# Altium footprint library PCB1.PcbLib: 17 footprints (part 1 of 2)
Each footprint in its own frame and in the unit in brackets; x right, y up, seen from the top. Pads: shape width x height; smd on the part's side, far side on the other; paste and mask are expansions set on the pad; w line width, h text height; cw(c..) or ccw(c..) is an arc to the next point about the centre after c.
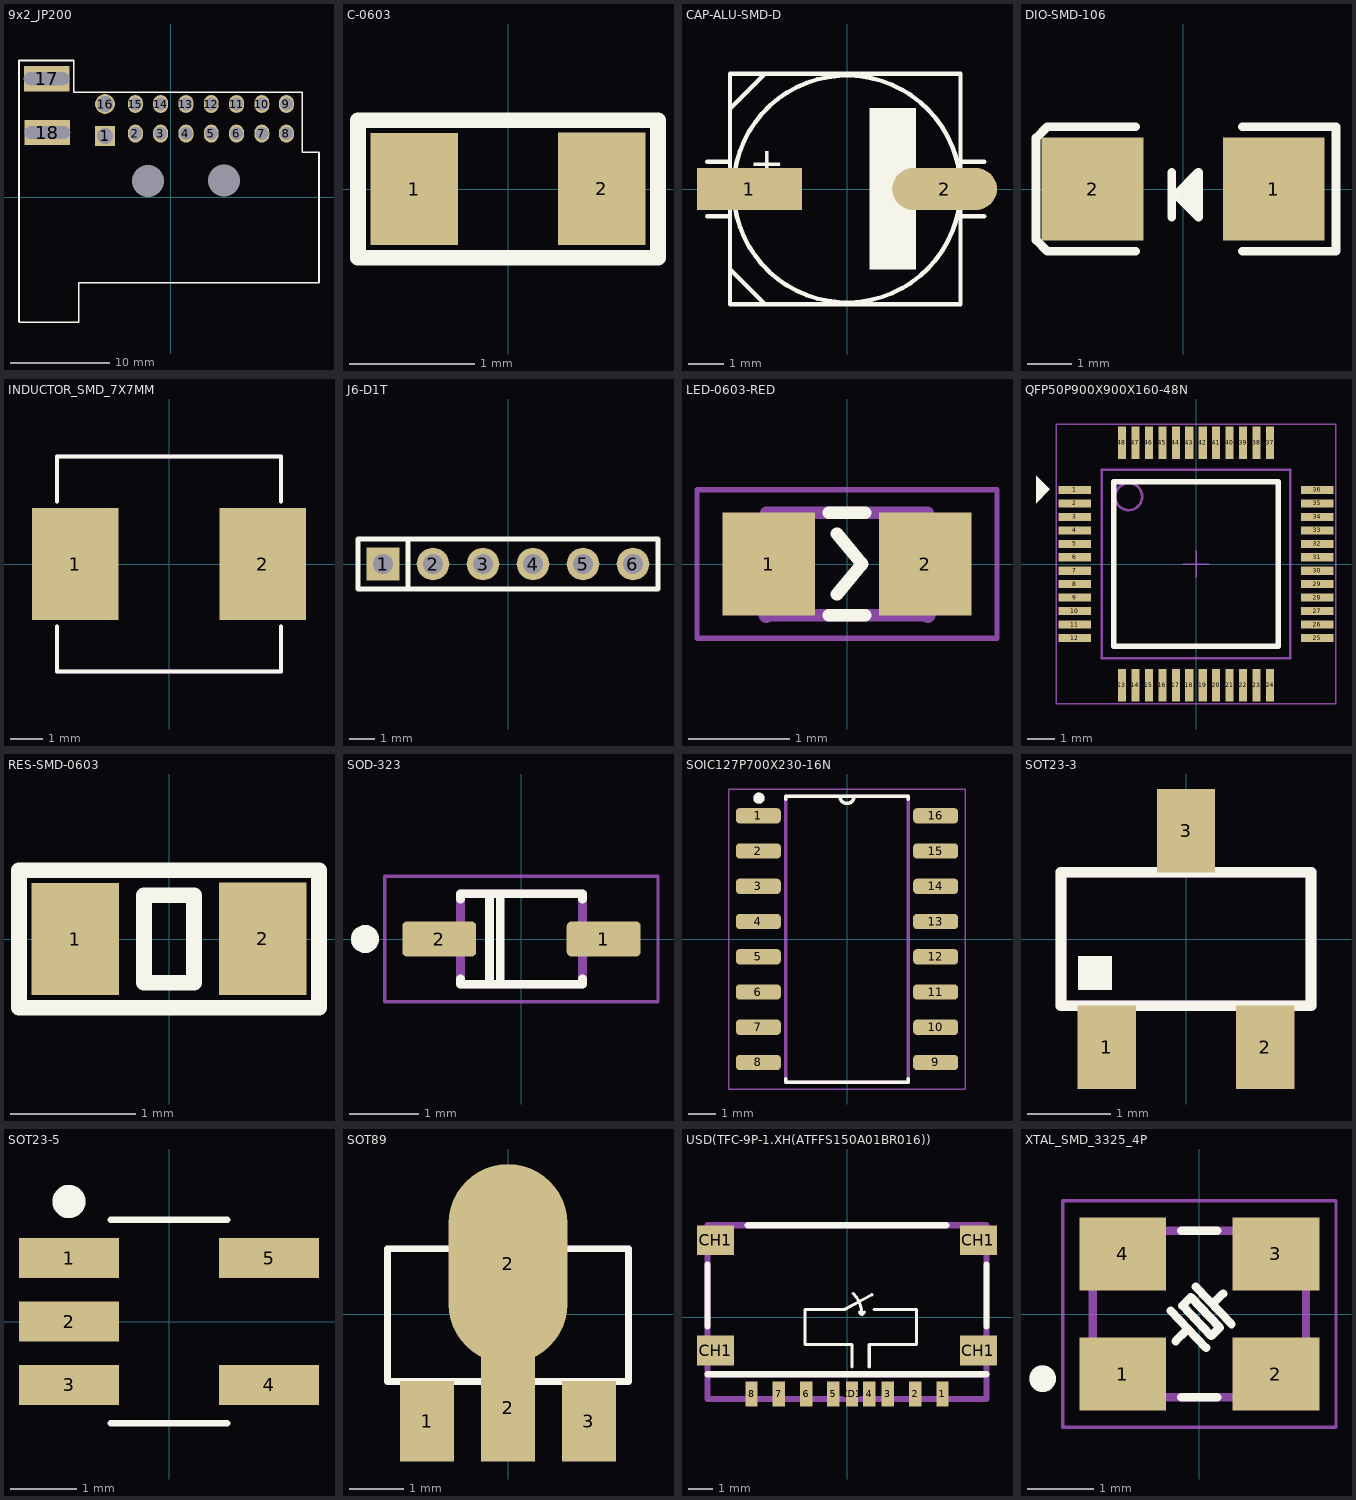
[diagram p0: the footprints below, top view; thin cyan lines are the x and y axes]

## 9x2_JP200 [mm]
pads (20):
  rect 2x2 hole 1.6 paste-2539.97: 1(-6.579,6.147)
  oval 1.5x1.8 hole 1.3: 2(-3.531,6.375) 3(-0.991,6.375) 4(1.549,6.375) 5(4.089,6.375) 6(6.629,6.375) 7(9.169,6.375) 8(11.633,6.375) 9(11.633,9.347) 10(9.169,9.347) 11(6.629,9.347) 14(-0.991,9.347) 15(-3.531,9.347)
  oval 1.5x1.8 hole 1.3 mask+0.127: 12(4.089,9.347) 13(1.549,9.347)
  round 2 hole 1.6 mask+0.127: 16(-6.579,9.347)
  rect 4.572x2.54 hole 1.27 slot 4.572 at 0 deg: 17(-12.446,11.887) 18(-12.37,6.477)
  round 1.524 hole 3.2: ""(-2.261,1.626) ""(5.385,1.651)
Top Overlay:
  lines w0.152: -15.215,-12.522 -15.189,-12.548 -9.22,-12.548 -9.22,-8.585 14.91,-8.585 14.91,4.496 13.233,4.496 13.233,10.516 -9.703,10.516 -9.703,13.716 -15.215,13.716 -15.215,-12.522
3D body: height 17, standoff 0, extent -15.215,-12.548 14.91,13.716

## C-0603 [mm]
pads (2):
  rect 0.7x0.9 smd: 1(-0.75,0) 2(0.75,0)
Top Overlay:
  lines w0.127: -1.2,-0.55 -1.2,0.55 1.2,0.55 1.2,-0.55 -1.2,-0.55
3D body "User Library-SMD CAPACITOR.STEP": height 0.8, standoff 0, extent -0.8,-0.4 0.8,0.4

## CAP-ALU-SMD-D [mm]
pads (2):
  rect 3x1.2 smd: 1(-2.794,0)
  oval 3x1.2 smd: 2(2.794,0)
Top Overlay:
  circle w0.127: c0,0 r3.25
  rectangle: 0.65,-2.3 1.975,2.325
  lines w0.127: -4,-0.775 -3.35,-0.775 ; -4,0.775 -3.35,0.775 ; -3.35,-2.65 -3.35,0 ; -3.35,-2.3 -2.35,-3.3 ; -3.35,2.3 -2.35,3.3 ; 3.25,-0.775 3.925,-0.775 ; 3.25,0.775 3.925,0.775 ; -3.35,-3.3 -3.35,0 ; -3.35,-3.3 -3.35,-3.3 ; -3.35,-3.3 3.25,-3.3 3.25,0 3.25,3.3 -3.35,3.3 -3.35,0
  text "+" at -2.8,0.325 h0.89
3D body "User Library-ALU-D.STEP": height 5.4, standoff 0, extent -3.5,-3.3 3.5,3.3

## DIO-SMD-106 [mil]
pads (2):
  rect 90x90.55 smd: 1(80,0) 2(-80,0)
Top Overlay:
  lines w7.87: -42.24,-55 -120,-55 -130,-45 -130,45 -120,55 -42.24,55 ; -10.12,-24.68 -10.12,14.69 ; 3.66,-10.91 3.66,0.91 ; 9.57,-16.81 9.57,6.81 ; 52.24,-55 135,-55 135,55 52.24,55 ; -6.18,-5 13.5,-24.68 13.5,14.69 -6.18,-5
Mechanical 1:
  lines w3.94: -2.87,0 12.87,0 ; 5,-7.87 5,7.87
3D body "User Library-DO-214Aa SMA.step": height 94.69, standoff 0, extent -98.7,-50.27 106.03,52.09

## INDUCTOR_SMD_7X7MM [mm]
pads (2):
  rect 2.7x3.505 smd: 1(-2.929,0) 2(2.929,0)
Top Overlay:
  lines w0.127: -3.5,-1.95 -3.5,-3.35 3.5,-3.35 3.5,-1.95 ; -3.5,1.95 -3.5,3.35 3.5,3.35 3.5,1.95
Mechanical 13:
  lines w0.127: -3.5,-1.95 -3.5,-3.35 3.5,-3.35 3.5,-1.95 ; -3.5,1.95 -3.5,3.35 3.5,3.35 3.5,1.95
3D body "Inductor_SMD_AMPLF_0630.STEP": height 3.01, standoff 0, extent -3.65,-3.35 3.65,3.35

## J6-D1T [mm]
pads (6):
  rect 1.3x1.3 hole 0.8: 1(-5,0)
  round 1.3 hole 0.8: 2(-3,0) 3(-1,0) 4(1,0) 5(3,0) 6(5,0)
Top Overlay:
  lines w0.2: -4,-1 -4,1 ; -6,-1 -6,1 6,1 6,-1 -6,-1
3D body "62000611121.stp": height 6.01, standoff -2.79, extent -6,-1 6,1

## LED-0603-RED [mm]
pads (2):
  rect 0.92x1.016 smd: 1(-0.775,0) 2(0.775,0)
Top Overlay:
  lines w0.127: -0.178,-0.508 0.178,-0.508 ; -0.178,0.508 0.178,0.508 ; -0.1,-0.3 0.15,0 -0.1,0.3
Mechanical 13:
  lines w0.127: -0.8,-0.508 0.8,-0.508 ; -0.8,0.508 0.8,0.508
  lines w0.152: -0.8,-0.508 -0.8,0.4 ; 0.8,-0.508 0.8,0.4
Mechanical 15:
  lines w0.05: -1.485,-0.735 1.485,-0.735 1.485,0.735 -1.485,0.735 -1.485,-0.735
3D body "SMD_0603LED_RED.STEP": height 0.87, standoff -0.01, extent -0.808,-0.5 0.808,0.5

## QFP50P900X900X160-48N [mm]
pads (48):
  rect 1.2x0.3 smd: 1(-4.5,2.75) 2(-4.5,2.25) 3(-4.5,1.75) 4(-4.5,1.25) 5(-4.5,0.75) 6(-4.5,0.25) 7(-4.5,-0.25) 8(-4.5,-0.75) 9(-4.5,-1.25) 10(-4.5,-1.75) 11(-4.5,-2.25) 12(-4.5,-2.75) 25(4.5,-2.75) 26(4.5,-2.25) 27(4.5,-1.75) 28(4.5,-1.25) 29(4.5,-0.75) 30(4.5,-0.25) 31(4.5,0.25) 32(4.5,0.75) 33(4.5,1.25) 34(4.5,1.75) 35(4.5,2.25) 36(4.5,2.75)
  rect 0.3x1.2 smd: 13(-2.75,-4.5) 14(-2.25,-4.5) 15(-1.75,-4.5) 16(-1.25,-4.5) 17(-0.75,-4.5) 18(-0.25,-4.5) 19(0.25,-4.5) 20(0.75,-4.5) 21(1.25,-4.5) 22(1.75,-4.5) 23(2.25,-4.5) 24(2.75,-4.5) 37(2.75,4.5) 38(2.25,4.5) 39(1.75,4.5) 40(1.25,4.5) 41(0.75,4.5) 42(0.25,4.5) 43(-0.25,4.5) 44(-0.75,4.5) 45(-1.25,4.5) 46(-1.75,4.5) 47(-2.25,4.5) 48(-2.75,4.5)
Top Overlay:
  region: -5.944,3.277 -5.436,2.769 -5.944,2.261
  lines w0.2: -3.05,-3.05 -3.05,3.05 3.05,3.05 3.05,-3.05 -3.05,-3.05
Mechanical 12:
  lines w0.001: -3.5,-3.5 -3.5,3.5 3.5,3.5 3.5,-3.5 -3.5,-3.5
Mechanical 13:
  circle w0.1: c-2.5,2.5 r0.5
  lines w0.1: -3.5,-3.5 -3.5,3.5 3.5,3.5 3.5,-3.5 -3.5,-3.5
Mechanical 15:
  lines w0.05: -0.5,0 0.5,0 ; 0,-0.5 0,0.5 ; -5.2,-5.2 -5.2,5.2 5.2,5.2 5.2,-5.2 -5.2,-5.2
3D body "STM32F103C8T6--3DModel-STEP-510211.STEP": height 1.6, standoff 0, extent -4.5,-4.5 4.5,4.5

## RES-SMD-0603 [mm]
pads (2):
  rect 0.7x0.9 smd: 1(-0.75,0) 2(0.75,0)
Top Overlay:
  lines w0.127: -1.2,-0.55 1.2,-0.55 1.2,0.55 -1.2,0.55 -1.2,-0.55 ; -0.2,-0.35 0.2,-0.35 0.2,0.35 -0.2,0.35 -0.2,-0.35
3D body "User Library-SMD RESISTOR-1 (3).step": height 0.43, standoff -0.03, extent -0.8,-0.4 0.8,0.4

## SOD-323 [mm]
pads (2):
  rrect25% 1.06x0.5 smd: 1(1.18,0) 2(-1.18,0)
Top Overlay:
  circle w0.2: c-2.246,0 r0.1
  lines w0.127: -0.875,-0.57 -0.875,-0.65 0.875,-0.65 0.875,-0.57 ; -0.875,0.57 -0.875,0.65 0.875,0.65 0.875,0.57 ; -0.457,-0.635 -0.457,0.635 ; -0.305,-0.61 -0.305,0.61
Mechanical 13:
  circle w0.2: c-2.246,0 r0.1
  lines w0.127: -0.875,-0.65 0.875,-0.65 0.875,0.65 -0.875,0.65 -0.875,-0.65
Mechanical 15:
  lines w0.05: -1.96,-0.9 1.96,-0.9 1.96,0.9 -1.96,0.9 -1.96,-0.9
3D body "SOD-323.STEP": height 1.17, standoff 0.02, extent -1.35,-0.723 1.35,0.723

## SOIC127P700X230-16N [mm]
pads (16):
  rrect50% 1.62x0.55 smd: 1(-3.195,4.445) 2(-3.195,3.175) 3(-3.195,1.905) 4(-3.195,0.635) 5(-3.195,-0.635) 6(-3.195,-1.905) 7(-3.195,-3.175) 8(-3.195,-4.445) 9(3.195,-4.445) 10(3.195,-3.175) 11(3.195,-1.905) 12(3.195,-0.635) 13(3.195,0.635) 14(3.195,1.905) 15(3.195,3.175) 16(3.195,4.445)
Top Overlay:
  circle w0.2: c-3.175,5.08 r0.1
  lines w0.127: -2.2,-5.04 -2.2,-5.15 2.2,-5.15 2.2,-5.04 ; -2.2,5.04 -2.2,5.15 2.2,5.15 2.2,5.04 ; -0.26,5.15 ccw(c0,5.15) 0.26,5.15
Mechanical 13:
  circle w0.2: c-3.175,5.08 r0.1
  lines w0.127: -2.2,-5.15 -2.2,5.15 2.2,5.15 2.2,-5.15 -2.2,-5.15
Mechanical 15:
  lines w0.05: -4.255,-5.4 4.255,-5.4 4.255,5.4 -4.255,5.4 -4.255,-5.4
3D body "PS2811-4-F3-A.STEP": height 2.3, standoff 0, extent -3.5,-5.15 3.5,5.15

## SOT23-3 [mm]
pads (3):
  rect 0.7x1 smd: 1(-0.95,-1.3) 2(0.95,-1.3) 3(0,1.3)
Top Overlay:
  region: -0.893,-0.607 -1.295,-0.607 -1.295,-0.206 -0.893,-0.206
  lines w0.127: -1.5,-0.8 1.5,-0.8 1.5,0.8 -1.5,0.8 -1.5,-0.8
Mechanical 13:
  region: -0.75,-1.402 -1.152,-1.402 -1.152,-0.8 -0.75,-0.8
  region: 1.15,-1.402 0.751,-1.402 0.751,-0.8 1.15,-0.8
  region: 0.2,0.802 -0.2,0.802 -0.2,1.4 0.2,1.4
  lines w0.127: -1.5,-0.8 1.5,-0.8 1.5,0.8 -1.5,0.8 -1.5,-0.8
3D body "SI2302DS--3DModel-STEP-269445.STEP": height 1.1, standoff 0, extent -1.45,-1.15 1.45,1.15

## SOT23-5 [mm]
pads (5):
  rect 1.5x0.6 smd: 1(-1.5,0.95) 2(-1.5,0) 3(-1.5,-0.95) 4(1.5,-0.95) 5(1.5,0.95)
Top Overlay:
  circle w0.25: c-1.5,1.8 r0.125
  lines w0.1: -0.875,-1.525 0.875,-1.525 ; -0.875,1.525 0.875,1.525
3D body: height 0.15, standoff 0, extent -1.753,0.711 -1.219,1.168
3D body: height 0.9, standoff 0, extent -1.219,0.711 -1.092,1.168
3D body: height 0.9, standoff 0.75, extent -1.092,0.711 -0.813,1.168
3D body: height 1.45, standoff 0, extent -0.875,-1.525 0.875,1.525
3D body: height 0.9, standoff 0.75, extent -1.092,-0.239 -0.813,0.218
3D body: height 0.9, standoff 0, extent -1.219,-0.239 -1.092,0.218
3D body: height 0.15, standoff 0, extent -1.753,-0.239 -1.219,0.218
3D body: height 0.9, standoff 0.75, extent -1.092,-1.189 -0.813,-0.732
3D body: height 0.9, standoff 0, extent -1.219,-1.189 -1.092,-0.732
3D body: height 0.15, standoff 0, extent -1.753,-1.189 -1.219,-0.732
3D body: height 0.9, standoff 0.75, extent 0.813,0.732 1.092,1.189
3D body: height 0.9, standoff 0, extent 1.092,0.732 1.219,1.189
3D body: height 0.15, standoff 0, extent 1.219,0.732 1.753,1.189
3D body: height 0.9, standoff 0.75, extent 0.813,-1.168 1.092,-0.711
3D body: height 0.9, standoff 0, extent 1.092,-1.168 1.219,-0.711
3D body: height 0.15, standoff 0, extent 1.219,-1.168 1.753,-0.711

## SOT89 [mm]
pads (4):
  rect 1x1.5 smd paste-2 mask+0: 1(-1.499,-1.981) 3(1.499,-1.981)
  rect 1x2 smd paste-2 mask+0: 2(0,-1.727)
  oval 2.2x3.7 smd paste-3: 2(0,0.94)
Top Overlay:
  lines w0.127: -2.235,-1.245 2.235,-1.245 2.235,1.219 -2.235,1.219 -2.235,-1.245
Top Paste:
  region: 0.9,0 -0.9,0 -0.9,2.2 0.9,2.2
  region: -1.1,-2.68 -1.9,-2.68 -1.9,-1.28 -1.1,-1.28
  region: 1.9,-2.68 1.1,-2.68 1.1,-1.28 1.9,-1.28
  region: 0.4,-2.68 -0.4,-2.68 -0.4,-1.28 0.4,-1.28
Top Solder:
  region: 0.525,-2.775 -0.525,-2.775 -0.525,-1.2 0.525,-1.2
  region: 2.025,-2.775 0.975,-2.775 0.975,-1.2 2.025,-1.2
  region: -0.975,-2.775 -2.025,-2.775 -2.025,-1.2 -0.975,-1.2
Mechanical 13:
  region: 0.787,1.575 0.787,1.295 -0.787,1.295 -0.787,1.321 -0.787,1.575 -0.356,2.007 0.356,2.007
  region: 0.279,-2.108 -0.279,-2.108 -0.279,-1.27 0.279,-1.27
  region: 1.727,-2.108 1.27,-2.108 1.27,-1.27 1.727,-1.27
  region: -1.27,-2.108 -1.727,-2.108 -1.727,-1.27 -1.27,-1.27
  lines w0.127: -2.235,-1.245 2.235,-1.245 ; -2.235,1.219 2.235,1.219
  lines w0.2: -0.787,1.295 -0.787,1.575 -0.356,2.007 0.356,2.007 0.787,1.575 0.787,1.295 -0.787,1.295
3D body "HT7550-1-SOT89--3DModel-STEP-269445.STEP": height 1.6, standoff 0, extent -2.25,-2.267 2.25,1.828

## USD(TFC-9P-1.XH(ATFFS150A01BR016)) [mm]
pads (13):
  rect 0.5x1 smd: 1(3.85,-3.1) 2(2.75,-3.1) 3(1.65,-3.1) 4(0.9,-3.1) 5(-0.55,-3.1) 6(-1.65,-3.1) 7(-2.75,-3.1) 8(-3.85,-3.1) CD1(0.2,-3.1)
  rect 1.5x1.2 smd paste+0 mask+0.051: CH1(-5.3,-1.35) CH1(-5.3,3.1) CH1(5.3,-1.35) CH1(5.3,3.1)
Top Overlay:
  lines w0.127: 0.2,-2 0.2,-1.1 -1.7,-1.1 -1.7,0.3 -0.1,0.3 1,0.9 ; 0.249,0.949 cw(c-0.6,0.1) 0.6,0.1 ; 0.5,0.2 0.6,0.1 ; 0.7,0.2 0.6,0.1 ; 0.9,-2 0.9,-1.1 2.8,-1.1 2.8,0.3 1.1,0.3
  lines w0.254: -5.625,-2.3 5.625,-2.3 ; -5.625,-0.375 -5.625,2.125 ; -4,3.7 4,3.7 ; 5.625,-0.375 5.625,2.125
Mechanical 13:
  lines w0.254: -5.625,-2.3 5.625,-2.3 ; -5.625,-3.3 5.625,-3.3 5.625,3.7 -5.625,3.7 -5.625,-3.3
3D body: height 2, standoff 0, extent -5.63,-2.3 5.62,3.7
3D body: height 0.1, standoff 0, extent -4.05,-3.1 -3.65,-1.576
3D body: height 0.1, standoff 0, extent -2.95,-3.1 -2.55,-1.576
3D body: height 0.1, standoff 0, extent -1.85,-3.1 -1.45,-1.576
3D body: height 0.1, standoff 0, extent -0.75,-3.1 -0.35,-1.576
3D body: height 0.1, standoff 0, extent 0,-3.1 0.4,-1.576
3D body: height 0.1, standoff 0, extent 0.7,-3.1 1.1,-1.576
3D body: height 0.1, standoff 0, extent 1.45,-3.1 1.85,-1.576
3D body: height 0.1, standoff 0, extent 2.55,-3.1 2.95,-1.576
3D body: height 0.1, standoff 0, extent 3.65,-3.1 4.05,-1.576

## XTAL_SMD_3325_4P [mm]
pads (4):
  rect 1.3x1.1 smd: 1(-1.15,-0.9) 2(1.15,-0.9) 3(1.15,0.9) 4(-1.15,0.9)
Top Overlay:
  circle w0.2: c-2.35,-0.97 r0.1
  lines w0.127: -0.432,0.051 0.102,-0.508 ; -0.356,-0.406 -0.203,-0.254 ; -0.27,-1.25 0.27,-1.25 ; -0.27,1.25 0.27,1.25 ; -0.051,0.406 0.483,-0.152 ; 0.229,0.178 0.356,0.305 ; -0.254,0.127 -0.127,0.254 0.305,-0.203 0.279,-0.229 0.178,-0.33 -0.254,0.127
Mechanical 13:
  circle w0.2: c-2.35,-0.97 r0.1
  lines w0.127: -1.6,-1.25 -1.6,1.25 1.6,1.25 1.6,-1.25 -1.6,-1.25
Mechanical 15:
  lines w0.05: -2.05,-1.7 -2.05,1.7 2.05,1.7 2.05,-1.7 -2.05,-1.7
3D body "ECS-480-8-33B-CWY-TR3.STEP": height 0.8, standoff 0, extent -1.6,-1.25 1.6,1.25